# Altium schematic symbol library KillSwitch.SchLib: 1 symbol
Pins are listed as number, name and electrical type; pins without a type are passive.

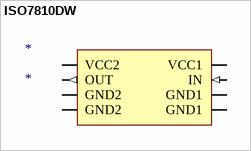
[diagram p0: symbol ISO7810DW]

## ISO7810DW
designator *
Highest isolation rating, single-channel, reinforced digital isolator 16-SOIC -55 to 125; Manufacturer: Texas Instruments; Manufacturer Part Number: ISO7810DW; Number of Channels: 1; Propagation Delay: 16ns; Channel Type: Unidirectional; Data Rate: 100Mbps; Isolated Power: No; Pulse Width Distortion (PWD): 4.6ns; Supplier 1: Digi-Key; Supplier Part Number 1: 296-43213-ND; RoHS: Yes; Category: Integrated Circuits (ICs); Stock 1: 22; Pricing 1: 1=5.19000, 10=4.66200, 25=4.40760, 100=3.62390, 250=3.25176, 500=3.13420, 1000=2.60531, 2500=2.58720 (USD); Case/Package: SOIC; Min Operating Temperature: -55°C; Max Operating Temperature: 125°C; Packaging: Rail/Tube; Type: General Purpose; Lead Free: Lead Free; RoHS Compliant: Yes; ComponentLink1URL: http://www.ti.com/general/docs/lit/getliterature.tsp?genericPartNumber=ISO7810&amp;&amp;fileType=pdf&src-supplier=Mouser; ComponentLink1Description: http://www.ti.com/general/docs/lit/getliterature.tsp?genericPartNumber=ISO7810&amp;&amp;fileType=pdf&src-supplier=Mouser; ComponentLink2URL: http://www.ti.com/lit/ds/symlink/iso7810.pdf?src-supplier=Digi-Key; ComponentLink2Description: http://www.ti.com/lit/ds/symlink/iso7810.pdf?src-supplier=Digi-Key
pins: ?1 VCC2 (power), ?2 OUT (out), ?3 GND2, ?4 GND2, ?5 GND1, ?6 GND1, ?7 IN (in), ?8 VCC1 (power)